# EAGLE library part MIC29302 (library ArdDisp)
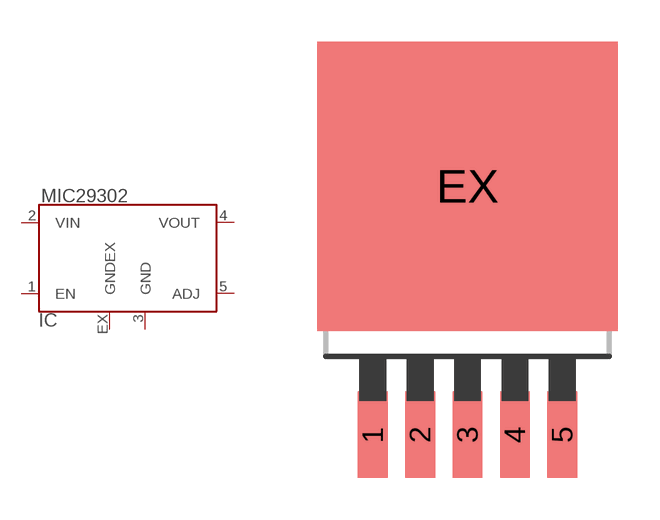
[diagram p28: symbol with the pads of TO263-5; footprint TO263-5]

Designator prefix IC

## MIC29302WU  [TO263-5]
1  EN  in
2  VIN  in
3  GND  in
4  VOUT  pas
5  ADJ  in
EX  GNDEX  in

## Footprint TO263-5 (pad centres in mm)
smd 1.067 x 3.1: 1 -3.404,-8.231; 2 -1.702,-8.231; 3 0,-8.231; 4 1.702,-8.231; 5 3.404,-8.231
smd 10.8 x 10.4: EX 0,0.7